# Altium footprint library 687 1xx 149 022.PcbLib: 22 footprints (part 1 of 2)
Each footprint in its own frame and in the unit in brackets; x right, y up, seen from the top. Pads: shape width x height; smd on the part's side, far side on the other; paste and mask are expansions set on the pad; w line width, h text height; cw(c..) or ccw(c..) is an arc to the next point about the centre after c.
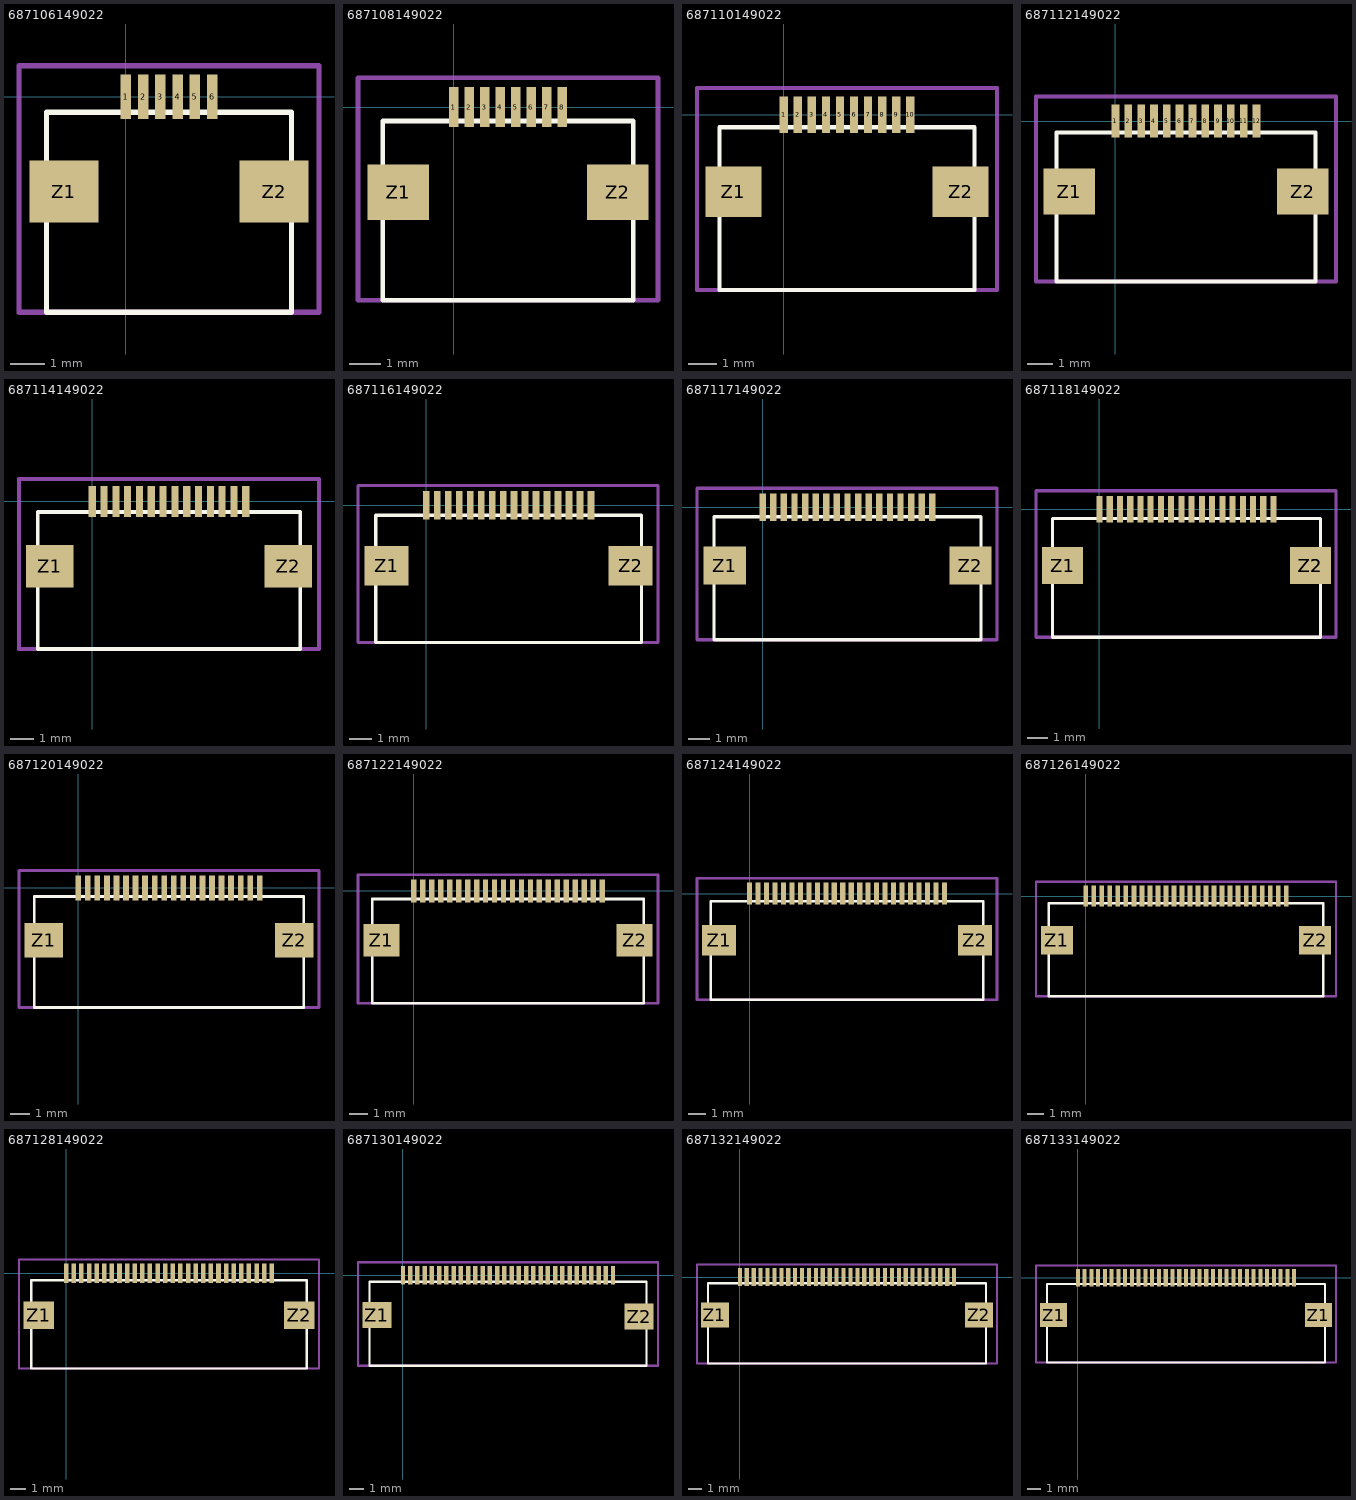
[diagram p0: the footprints below, top view; thin cyan lines are the x and y axes]

## 687106149022 [mm] "WR-FPC 0.50mm SMT Horiz. Bot. Contact Hinge type WR-FPC 0.50mm 6pins Hinge type SMT Horizontal Bottom Contact"
pads (8):
  rect 0.3x1.3 smd: 1(0,0) 2(0.5,0) 3(1,0) 4(1.5,0) 5(2,0) 6(2.5,0)
  rect 2x1.8 smd: Z1(-1.8,-2.75) Z2(4.3,-2.75)
Top Overlay:
  lines w0.152: -2.3,-6.25 4.8,-6.25 4.8,-0.45 -2.3,-0.45 -2.3,-6.25
Mechanical 15:
  lines w0.152: 4.8,-6.25 -3.1,-6.25 ; -3.1,-6.25 5.6,-6.25 5.6,0.9 -3.1,0.9 -3.1,-6.25
3D body: height 2.25, standoff 0, extent -2.3,-6.25 4.8,0.25

## 687108149022 [mm] "WR-FPC 0.50mm SMT Horiz. Bot. Contact Hinge type WR-FPC 0.50mm 8pins Hinge type SMT Horizontal Bottom Contact"
pads (10):
  rect 0.3x1.3 smd: 1(0,0) 2(0.5,0) 3(1,0) 4(1.5,0) 5(2,0) 6(2.5,0) 7(3,0) 8(3.5,0)
  rect 2x1.8 smd: Z1(-1.8,-2.75) Z2(5.3,-2.75)
Top Overlay:
  lines w0.152: -2.3,-6.25 -2.3,-0.45 5.8,-0.45 5.8,-6.25 -2.3,-6.25
Mechanical 15:
  lines w0.152: -3.1,-6.25 -3.1,0.95 6.6,0.95 6.6,-6.25 -3.1,-6.25
3D body: height 2.25, standoff 0, extent -2.3,-6.25 5.8,0.25

## 687110149022 [mm] "WR-FPC 0.50mm SMT Horiz. Bot. Contact Hinge type WR-FPC 0.50mm 10pins Hinge type SMT Horizontal Bottom Contact"
pads (12):
  rect 0.3x1.3 smd: 1(0,0) 2(0.5,0) 3(1,0) 4(1.5,0) 5(2,0) 6(2.5,0) 7(3,0) 8(3.5,0) 9(4,0) 10(4.5,0)
  rect 2x1.8 smd: Z1(-1.8,-2.75) Z2(6.3,-2.75)
Top Overlay:
  lines w0.152: -2.3,-6.25 -2.3,-0.45 6.8,-0.45 6.8,-6.25 -2.3,-6.25
Mechanical 15:
  lines w0.152: -3.1,-6.25 7.6,-6.25 7.6,0.95 -3.1,0.95 -3.1,-6.25
3D body: height 2.25, standoff 0, extent -2.3,-6.25 6.8,0.25

## 687112149022 [mm] "WR-FPC 0.50mm SMT Horiz. Bot. Contact Hinge type WR-FPC 0.50mm 12pins Hinge type SMT Horizontal Bottom Contact"
pads (14):
  rect 0.3x1.3 smd: 1(0,0) 2(0.5,0) 3(1,0) 4(1.5,0) 5(2,0) 6(2.5,0) 7(3,0) 8(3.5,0) 9(4,0) 10(4.5,0) 11(5,0) 12(5.5,0)
  rect 2x1.8 smd: Z1(-1.8,-2.75) Z2(7.3,-2.75)
Top Overlay:
  lines w0.152: -2.3,-6.25 7.8,-6.25 7.8,-0.45 -2.3,-0.45 -2.3,-6.25
Mechanical 15:
  lines w0.152: -3.1,-6.25 -3.1,0.95 8.6,0.95 8.6,-6.25 -3.1,-6.25
3D body: height 2.25, standoff 0, extent -2.3,-6.25 7.8,0.25

## 687114149022 [mm] "WR-FPC 0.50mm SMT Horiz. Bot. Contact Hinge type WR-FPC 0.50mm 14pins Hinge type SMT Horizontal Bottom Contact"
pads (16):
  rect 0.3x1.3 smd: 1(0,0) 2(0.5,0) 3(1,0) 4(1.5,0) 5(2,0) 6(2.5,0) 7(3,0) 8(3.5,0) 9(4,0) 10(4.5,0) 11(5,0) 12(5.5,0) 13(6,0) 14(6.5,0)
  rect 2x1.8 smd: Z1(-1.8,-2.75) Z2(8.3,-2.75)
Top Overlay:
  lines w0.152: -2.3,-6.25 8.8,-6.25 8.8,-0.45 -2.3,-0.45 -2.3,-6.25
Mechanical 15:
  lines w0.152: 8.8,-6.25 -3.1,-6.25 ; -3.1,-6.25 -3.1,0.95 9.6,0.95 9.6,-6.25 -3.1,-6.25
3D body: height 2.25, standoff 0, extent -2.3,-6.25 8.8,0.25

## 687116149022 [mm] "WR-FPC 0.50mm SMT Horiz. Bot. Contact Hinge type WR-FPC 0.50mm 16pins Hinge type SMT Horizontal Bottom Contact"
pads (18):
  rect 0.3x1.3 smd: 1(0,0) 2(0.5,0) 3(1,0) 4(1.5,0) 5(2,0) 6(2.5,0) 7(3,0) 8(3.5,0) 9(4,0) 10(4.5,0) 11(5,0) 12(5.5,0) 13(6,0) 14(6.5,0) 15(7,0) 16(7.5,0)
  rect 2x1.8 smd: Z1(-1.8,-2.75) Z2(9.3,-2.75)
Top Overlay:
  lines w0.152: -2.3,-6.25 -2.3,-0.45 9.8,-0.45 9.8,-6.25 -2.3,-6.25
Mechanical 15:
  lines w0.152: -3.1,-6.25 -3.1,0.9 10.55,0.9 10.55,-6.25 -3.1,-6.25
3D body: height 2.25, standoff 0, extent -2.3,-6.25 9.8,0.25

## 687117149022 [mm] "WR-FPC 0.50mm SMT Horiz. Bot. Contact Hinge type WR-FPC 0.50mm 17pins Hinge type SMT Horizontal Bottom Contact"
pads (19):
  rect 0.3x1.3 smd: 1(0,0) 2(0.5,0) 3(1,0) 4(1.5,0) 5(2,0) 6(2.5,0) 7(3,0) 8(3.5,0) 9(4,0) 10(4.5,0) 11(5,0) 12(5.5,0) 13(6,0) 14(6.5,0) 15(7,0) 16(7.5,0) 17(8,0)
  rect 2x1.8 smd: Z1(-1.8,-2.75) Z2(9.8,-2.75)
Top Overlay:
  lines w0.152: -2.3,-6.25 10.3,-6.25 10.3,-0.45 -2.3,-0.45 -2.3,-6.25
Mechanical 15:
  lines w0.152: 11,0.9 -3.1,0.9 -3.1,-6.25 11.05,-6.25 ; 11.05,-6.2 11.05,0.9
3D body: height 2.25, standoff 0, extent -2.3,-6.25 10.3,0.25

## 687118149022 [mm] "WR-FPC 0.50mm SMT Horiz. Bot. Contact Hinge type WR-FPC 0.50mm 18pins Hinge type SMT Horizontal Bottom Contact"
pads (21):
  rect 0.3x1.3 smd: 1(0,0) 2(0.5,0) 3(1,0) 4(1.5,0) 5(2,0) 6(2.5,0) 7(3,0) 8(3.5,0) 9(4,0) 10(4.5,0) 11(5,0) 12(5.5,0) 13(6,0) 14(6.5,0) 15(7,0) 16(7.5,0) 17(8,0) 18(8.5,0)
  rect 2x1.8 smd: Z1(-1.8,-2.75) Z2(10.3,-2.75) Z2(10.3,-2.75)
Top Overlay:
  lines w0.152: -2.3,-6.25 -2.3,-0.45 10.8,-0.45 10.8,-6.25 -2.3,-6.25
Mechanical 15:
  lines w0.152: -3.1,-6.25 11.55,-6.25 11.55,0.9 -3.1,0.9 -3.1,-6.25
3D body: height 2.25, standoff 0, extent -2.3,-6.25 10.8,0.25

## 687120149022 [mm] "WR-FPC 0.50mm SMT Horiz. Bot. Contact Hinge type WR-FPC 0.50mm 20pins Hinge type SMT Horizontal Bottom Contact"
pads (22):
  rect 0.3x1.3 smd: 1(0,0) 2(0.5,0) 3(1,0) 4(1.5,0) 5(2,0) 6(2.5,0) 7(3,0) 8(3.5,0) 9(4,0) 10(4.5,0) 11(5,0) 12(5.5,0) 13(6,0) 14(6.5,0) 15(7,0) 16(7.5,0) 17(8,0) 18(8.5,0) 19(9,0) 20(9.5,0)
  rect 2x1.8 smd: Z1(-1.8,-2.75) Z2(11.3,-2.75)
Top Overlay:
  lines w0.152: -2.3,-6.25 11.8,-6.25 11.8,-0.45 -2.3,-0.45 -2.3,-6.25
Mechanical 15:
  lines w0.152: -3.1,-6.25 12.6,-6.25 12.6,0.9 -3.1,0.9 -3.1,-6.25
3D body: height 2.25, standoff 0, extent -2.3,-6.25 11.8,0.25

## 687122149022 [mm] "WR-FPC 0.50mm SMT Horiz. Bot. Contact Hinge type WR-FPC 0.50mm 22pins Hinge type SMT Horizontal Bottom Contact"
pads (24):
  rect 0.3x1.3 smd: 1(0,0) 2(0.5,0) 3(1,0) 4(1.5,0) 5(2,0) 6(2.5,0) 7(3,0) 8(3.5,0) 9(4,0) 10(4.5,0) 11(5,0) 12(5.5,0) 13(6,0) 14(6.5,0) 15(7,0) 16(7.5,0) 17(8,0) 18(8.5,0) 19(9,0) 20(9.5,0) 21(10,0) 22(10.5,0)
  rect 2x1.8 smd: Z1(-1.8,-2.75) Z2(12.3,-2.75)
Top Overlay:
  lines w0.152: -2.3,-6.25 -2.3,-0.45 12.8,-0.45 12.8,-6.25 -2.3,-6.25
Mechanical 15:
  lines w0.152: -3.1,-6.25 -3.1,0.9 13.6,0.9 13.6,-6.25 -3.1,-6.25
3D body: height 2.25, standoff 0, extent -2.3,-6.25 12.8,0.25

## 687124149022 [mm] "WR-FPC 0.50mm SMT Horiz. Bot. Contact Hinge type WR-FPC 0.50mm 24pins Hinge type SMT Horizontal Bottom Contact"
pads (26):
  rect 0.3x1.3 smd: 1(0,0) 2(0.5,0) 3(1,0) 4(1.5,0) 5(2,0) 6(2.5,0) 7(3,0) 8(3.5,0) 9(4,0) 10(4.5,0) 11(5,0) 12(5.5,0) 13(6,0) 14(6.5,0) 15(7,0) 16(7.5,0) 17(8,0) 18(8.5,0) 19(9,0) 20(9.5,0) 21(10,0) 22(10.5,0) 23(11,0) 24(11.5,0)
  rect 2x1.8 smd: Z1(-1.8,-2.75) Z2(13.3,-2.75)
Top Overlay:
  lines w0.152: -2.3,-6.25 13.8,-6.25 13.8,-0.45 -2.3,-0.45 -2.3,-6.25
Mechanical 15:
  lines w0.152: -3.1,-6.25 14.6,-6.25 14.6,0.9 -3.1,0.9 -3.1,-6.25
3D body: height 2.25, standoff 0, extent -2.3,-6.25 13.8,0.25

## 687126149022 [mm] "WR-FPC 0.50mm SMT Horiz. Bot. Contact Hinge type WR-FPC 0.50mm 26pins Hinge type SMT Horizontal Bottom Contact"
pads (28):
  rect 0.3x1.3 smd: 1(0,0) 2(0.5,0) 3(1,0) 4(1.5,0) 5(2,0) 6(2.5,0) 7(3,0) 8(3.5,0) 9(4,0) 10(4.5,0) 11(5,0) 12(5.5,0) 13(6,0) 14(6.5,0) 15(7,0) 16(7.5,0) 17(8,0) 18(8.5,0) 19(9,0) 20(9.5,0) 21(10,0) 22(10.5,0) 23(11,0) 24(11.5,0) 25(12,0) 26(12.5,0)
  rect 2x1.8 smd: Z1(-1.8,-2.75) Z2(14.3,-2.75)
Top Overlay:
  lines w0.152: -2.3,-6.25 -2.3,-0.45 14.8,-0.45 14.8,-6.25 -2.3,-6.25
Mechanical 15:
  lines w0.152: -3.1,-6.25 15.6,-6.25 15.6,0.9 -3.1,0.9 -3.1,-6.25
3D body: height 2.25, standoff 0, extent -2.3,-6.25 14.8,0.25

## 687128149022 [mm] "WR-FPC 0.50mm SMT Horiz. Bot. Contact Hinge type WR-FPC 0.50mm 28pins Hinge type SMT Horizontal Bottom Contact"
pads (30):
  rect 0.3x1.3 smd: 1(0,0) 2(0.5,0) 3(1,0) 4(1.5,0) 5(2,0) 6(2.5,0) 7(3,0) 8(3.5,0) 9(4,0) 10(4.5,0) 11(5,0) 12(5.5,0) 13(6,0) 14(6.5,0) 15(7,0) 16(7.5,0) 17(8,0) 18(8.5,0) 19(9,0) 20(9.5,0) 21(10,0) 22(10.5,0) 23(11,0) 24(11.5,0) 25(12,0) 26(12.5,0) 27(13,0) 28(13.5,0)
  rect 2x1.8 smd: Z1(-1.8,-2.75) Z2(15.3,-2.75)
Top Overlay:
  lines w0.152: -2.3,-6.25 15.8,-6.25 15.8,-0.45 -2.3,-0.45 -2.3,-6.25
Mechanical 15:
  lines w0.152: -3.1,-6.25 16.6,-6.25 16.6,0.9 -3.1,0.9 -3.1,-6.25
3D body: height 2.25, standoff 0, extent -2.3,-6.25 15.8,0.25

## 687130149022 [mm] "WR-FPC 0.50mm SMT Horiz. Bot. Contact Hinge type WR-FPC 0.50mm 30pins Hinge type SMT Horizontal Bottom Contact"
pads (32):
  rect 0.3x1.3 smd: 1(0,0) 2(0.5,0) 3(1,0) 4(1.5,0) 5(2,0) 6(2.5,0) 7(3,0) 8(3.5,0) 9(4,0) 10(4.5,0) 11(5,0) 12(5.5,0) 13(6,0) 14(6.5,0) 15(7,0) 16(7.5,0) 17(8,0) 18(8.5,0) 19(9,0) 20(9.5,0) 21(10,0) 22(10.5,0) 23(11,0) 24(11.5,0) 25(12,0) 26(12.5,0) 27(13,0) 28(13.5,0) 29(14,0) 30(14.5,0)
  rect 2x1.8 smd: Z1(-1.8,-2.75) Z2(16.3,-2.85)
Top Overlay:
  lines w0.152: -2.3,-6.25 -2.3,-0.45 16.8,-0.45 16.8,-6.25 -2.3,-6.25
Mechanical 15:
  lines w0.152: -3.1,-6.25 -3.1,0.9 17.6,0.9 17.6,-6.25 -3.1,-6.25
3D body: height 2.25, standoff 0, extent -2.3,-6.25 16.8,0.25

## 687132149022 [mm] "WR-FPC 0.50mm SMT Horiz. Bot. Contact Hinge type WR-FPC 0.50mm 32pins Hinge type SMT Horizontal Bottom Contact"
pads (34):
  rect 0.3x1.3 smd: 1(0,0) 2(0.5,0) 3(1,0) 4(1.5,0) 5(2,0) 6(2.5,0) 7(3,0) 8(3.5,0) 9(4,0) 10(4.5,0) 11(5,0) 12(5.5,0) 13(6,0) 14(6.5,0) 15(7,0) 16(7.5,0) 17(8,0) 18(8.5,0) 19(9,0) 20(9.5,0) 21(10,0) 22(10.5,0) 23(11,0) 24(11.5,0) 25(12,0) 26(12.5,0) 27(13,0) 28(13.5,0) 29(14,0) 30(14.5,0) 31(15,0) 32(15.5,0)
  rect 2x1.8 smd: Z1(-1.8,-2.75) Z2(17.3,-2.75)
Top Overlay:
  lines w0.152: -2.3,-6.25 17.8,-6.25 17.8,-0.45 -2.3,-0.45 -2.3,-6.25
Mechanical 15:
  lines w0.152: -3.1,-6.25 18.6,-6.25 18.6,0.9 -3.1,0.9 -3.1,-6.25
3D body: height 2.25, standoff 0, extent -2.3,-6.25 17.8,0.25

## 687133149022 [mm] "WR-FPC 0.50mm SMT Horiz. Bot. Contact Hinge type WR-FPC 0.50mm 33pins Hinge type SMT Horizontal Bottom Contact"
pads (35):
  rect 0.3x1.3 smd: 1(0,0) 2(0.5,0) 3(1,0) 4(1.5,0) 5(2,0) 6(2.5,0) 7(3,0) 8(3.5,0) 9(4,0) 10(4.5,0) 11(5,0) 12(5.5,0) 13(6,0) 14(6.5,0) 15(7,0) 16(7.5,0) 17(8,0) 18(8.5,0) 19(9,0) 20(9.5,0) 21(10,0) 22(10.5,0) 23(11,0) 24(11.5,0) 25(12,0) 26(12.5,0) 27(13,0) 28(13.5,0) 29(14,0) 30(14.5,0) 31(15,0) 32(15.5,0) 33(16,0)
  rect 2x1.8 smd: Z1(-1.8,-2.75) Z1(17.8,-2.75)
Top Overlay:
  lines w0.152: -2.3,-6.25 -2.3,-0.45 18.3,-0.45 18.3,-6.25 -2.3,-6.25
Mechanical 15:
  lines w0.152: -3.1,-6.25 -3.1,0.9 19.1,0.9 19.1,-6.25 -3.1,-6.25
3D body: height 2.25, standoff 0, extent -2.3,-6.25 18.3,0.25